# Altium schematic symbol library electromechanics.SchLib: 23 symbols
Pins are listed as number, name and electrical type; pins without a type are passive.

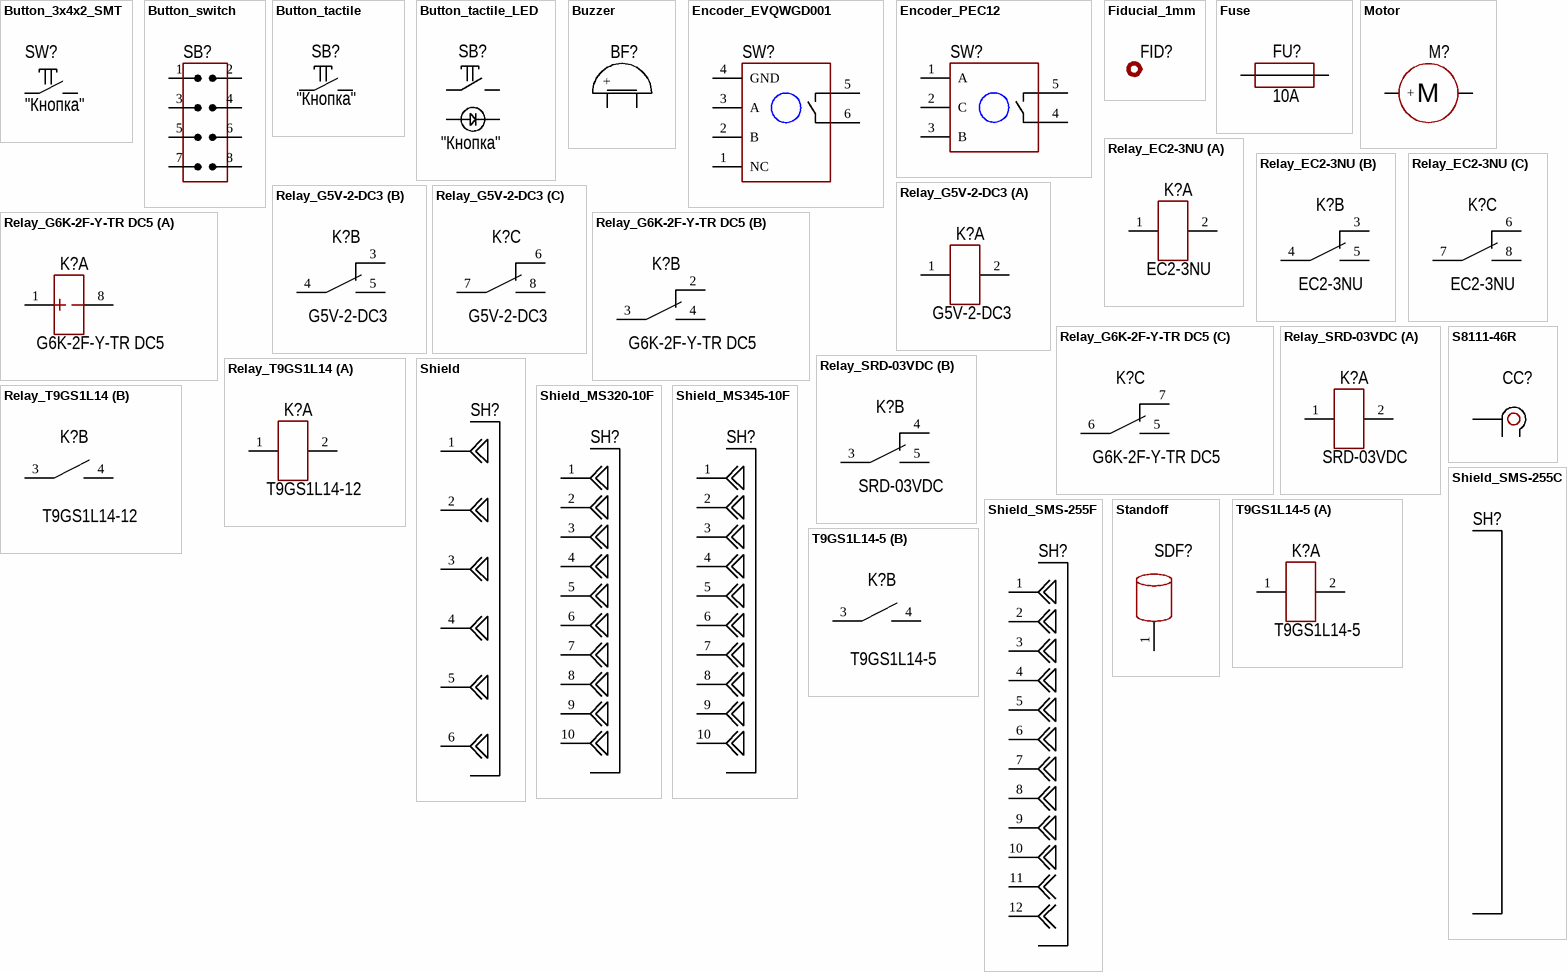
[diagram p0: symbols Button_3x4x2_SMT to T9GS1L14-5]

## Button_3x4x2_SMT
designator SW?  CommentText: "Кнопка"
SMT 3*4*2 2PIN; Manufacturer: xin cheng electronic; HelpURL: https://aliexpress.ru/item/32309509976.html?spm=a2g0v.12010612.8148356.51.441f61b1yUlL0Q; ValueManufacturerPartNumber: =TypeButton+', '+Package; PartNumber: 3*4*2 2PIN; Package: 3*4*2mm
footprint BUT: 3x4x2 SMT
pins: 1, 2

## Button_switch
designator SB?
Manufacturer: TE Connectivity; ValueManufacturerPartNumber: DIP switch, 4pin, 24VDC, 25mA, -40...+85°C; PartNumber: 418117270904; TypeButton: DIP switch; VoltageMax: 24VDC; CurrentMax: 25mA; Multichannel: 4pin; HelpURL: https://www.digikey.com/product-detail/en/te-connectivity-alcoswitch-switches/FSM2JSMAATR/450-1792-1-ND/3503931; Temperature: -40...+85°C
footprint BUT: 418117270904
pins: 1 IN, 2 IN, 3 IN, 4 IN, 5 IN, 6 IN, 7 IN, 8 IN

## Button_tactile
designator SB?  CommentText: "Кнопка"
Manufacturer: TE Connectivity; ValueManufacturerPartNumber: Tactile button, 6x6mm; PartNumber: FSM2JSMAATR; TypeButton: Tactile button; HelpURL: https://www.digikey.com/product-detail/en/te-connectivity-alcoswitch-switches/FSM2JSMAATR/450-1792-1-ND/3503931; Package: 6x6mm
footprint BUT: 6x3.5 TH
footprint BUT: 6x6 (Leaded Tactile Button 6x6)
footprint BUT: 6x6 SMD (Leaded Tactile Button 6x6)
footprint BUT: 6x3.5 SMD
footprint BUT: TS-1186F-B-A (XKB Connectivity Side Tactile Button)
footprint BUT: 5x5 H5 SMD (Leaded Tactile Button 5x5 height 5mm)
pins: 1, 2

## Button_tactile_LED
designator SB?  CommentText: "Кнопка"
Manufacturer: TE Connectivity; ValueManufacturerPartNumber: Tactile button, 9.2x9.2; PartNumber: TS5; TypeButton: Tactile button; HelpURL: https://www.digikey.com/product-detail/en/te-connectivity-alcoswitch-switches/FSM2JSMAATR/450-1792-1-ND/3503931; Package: 9.2x9.2
footprint BUT: TS5 LED (Tactile Button 9.2x9.2 with LED)
footprint BUT: SJMS LED (Tactile Button 8x8x12 with LED)
pins: 1, 2, 5, 6

## Buzzer
designator BF?
Manufacturer: PUI Audio; ValueManufacturerPartNumber: DIP switch, 2.73 kHz, 3VDC, 80mA, -20...+70°C; PartNumber: AT-0927-TT-6-R; TypeBuzzer: DIP switch; VoltageMax: 3VDC; Frequency: 2.73 kHz; CurrentMax: 80mA; HelpURL: https://www.digikey.com/products/en?keywords=AT-0927-TT-6-R; Temperature: -20...+70°C
footprint BUZ: AI-1223-TWT-3V-2-R
footprint BUZ: AT-0927-TT-6-R
footprint BUZ: CMT-7525
pins: 1 +, 2 -

## Encoder_EVQWGD001
designator SW?
Manufacturer: Toshiba; ValueManufacturerPartNumber: Quadrature encoder, EVQWGD001; PartNumber: EVQWGD001; TypeEncoder: Quadrature encoder; SeriesEncoder: EVQWGD001
footprint ENC: EVQWGD001
pins: 1 NC, 2 B, 3 A, 4 GND, 5, 6

## Encoder_PEC12
designator SW?
Manufacturer: Bourns; ValueManufacturerPartNumber: Quadrature encoder, PEC12R; PartNumber: PEC12R-4115F-S0012; TypeEncoder: Quadrature encoder; SeriesEncoder: PEC12R; HelpURL: https://www.digikey.com/product-detail/en/bourns-inc/PEC12R-4115F-S0012/PEC12R-4115F-S0012-ND/6153386
footprint ENC: PEC-12
pins: 1 A, 2 C, 3 B, 4, 5

## Fiducial_1mm
designator FID?
Fiducial
footprint FID: 1mm (Fiducial 1mm)

## Fuse
designator FU?  MaxCurrent: 10A
Manufacturer: Littelfuse; PartNumber: 01110501Z; TypeFuse: Electromechanics relay; VoltageMax: 250VAC; Package: 5x20mm; HelpURL: https://www.digikey.com/products/en?keywords=01110501Z; ValueManufacturerPartNumber: =TypeFuse+', '+VoltageMax+', '+MaxCurrent+', '+Package+', '+Temperature
footprint FUSE: 0ADBP3000-RE
footprint FUSE: 0679H (BelFuse)
footprint FUSE: 01110501Z (5x20 mm)
footprint FUSE: CQ-216
footprint FUSE: FC-001S
footprint FUSE: FH-100 (5x20 mm)
footprint FUSE: FH-101 (Fuse connector PCB mount)
footprint FUSE: 1206
footprint FUSE: 1812
footprint FUSE: 1808 (Fuse connector PCB SMD)
footprint FUSE: 0805
pins: 1, 2

## Motor
designator M?
Manufacturer: KOTL; ValueManufacturerPartNumber: SMD, 14000, 2.7VDC, 85mA, -20...+70°C; PartNumber: Z3OC1T8219731; TypeMotor: SMD; VoltageMax: 2.7VDC; RPM: 14000; CurrentMax: 85mA; HelpURL: https://datasheet.lcsc.com/lcsc/2109081930_KOTL-Z3OC1T8219731_C2894731.pdf; Temperature: -20...+70°C
footprint MOT: Z3OC1T8219731 (SMD vibration motor)
pins: 1 +, 2 -
text: M

## Relay_EC2-3NU
designator K?  PartNumber: EC2-3NU
Manufacturer: KEMET; ValueManufacturerPartNumber: Electromechanics relay, 3VDC, 250VAC, 2A, 2NO+2NC, -40...+85°C; TypeRelay: Electromechanics relay; VoltageMax: 250VAC; VoltageControlCoil: 3VDC; MaxCurrent: 2A; Package: 2NO+2NC; HelpURL: https://www.digikey.com/products/en?keywords=EC2-3NU; Temperature: -40...+85°C
footprint REL: EC2-3NU
part A pins: 1, 2
part B pins: 3, 4, 5
part C pins: 6, 7, 8

## Relay_G5V-2-DC3
designator K?  PartNumber: G5V-2-DC3
Manufacturer: Omron; ValueManufacturerPartNumber: Electromechanics relay, 3VDC, 125VAC, 2A, 2NO+2NC, -40...+85°C; TypeRelay: Electromechanics relay; VoltageMax: 125VAC; VoltageControlCoil: 3VDC; MaxCurrent: 2A; Package: 2NO+2NC; HelpURL: https://www.digikey.com/product-detail/en/omron-electronics-inc-emc-div/G5V-2-DC3/Z2185-ND/369042; Temperature: -40...+85°C
footprint REL: OMRON_G5V (Omron G5V relay)
part A pins: 1, 2
part B pins: 3, 4, 5
part C pins: 6, 7, 8

## Relay_G6K-2F-Y-TR DC5
designator K?  PartNumber: G6K-2F-Y-TR DC5
DPDT-Conversion; Manufacturer: Omron; ValueManufacturerPartNumber: Electromechanics relay, 5VDC, 125VAC, 1A, SMD 6.5x10mm, -40...+70°C; TypeRelay: Electromechanics relay; VoltageMax: 125VAC; VoltageControlCoil: 5VDC; MaxCurrent: 1A; Package: SMD 6.5x10mm; HelpURL: https://www.lcsc.com/datasheet/lcsc_datasheet_2211282300_Omron-Electronics-G6K-2F-Y-TR-DC5_C47190.pdf; Temperature: -40...+70°C
footprint REL: G6K-2F-Y
part A pins: 1, 8
part B pins: 2, 3, 4
part C pins: 5, 6, 7

## Relay_SRD-03VDC
designator K?  PartNumber: SRD-03VDC
Manufacturer: Ningbo Songle; ValueManufacturerPartNumber: Electromechanics relay, 3VDC, 250VAC, 10A, 1NO, -40...+85°C; TypeRelay: Electromechanics relay; VoltageMax: 250VAC; VoltageControlCoil: 3VDC; MaxCurrent: 10A; Package: 1NO; HelpURL: https://lcsc.com/product-detail/Relays_SRD-03VDC-SL-C_C24585.html; Temperature: -40...+85°C
footprint REL: SRD-03VDC
part A pins: 1, 2
part B pins: 3, 4, 5

## Relay_T9GS1L14
designator K?  PartNumber: T9GS1L14-12
Manufacturer: TE Connectivity; ValueManufacturerPartNumber: Electromechanics relay, 12VDC, 480VAC, 30A, 1NO, -40...+85°C; TypeRelay: Electromechanics relay; VoltageMax: 480VAC; VoltageControlCoil: 12VDC; MaxCurrent: 30A; Package: 1NO; HelpURL: https://www.digikey.com/products/en?keywords=T9GS1L14-12; Temperature: -40...+85°C
footprint REL: T9GS1
part A pins: 1, 2
part B pins: 3, 4

## S8111-46R
designator CC?  (value not drawn)
Cable Clip; Manufacturer: Harwin; HelpURL: https://www.mouser.ee/datasheet/3/71/1/S8111R.pdf; PartNumber: S8111-46R; ValueManufacturerPartNumber: S8111-46R
footprint CLIP: S8111-46R
pins: 1 IN

## Shield
designator SH?
PartNumber: 418117270904; HelpURL: https://aliexpress.ru/item/33003768263.html?spm=a2g0o.productlist.0.0.275ebc00d2dZQT&algo_pvid=6877cceb-f731-44eb-bf67-36eb17bd6196&algo_expid=6877cceb-f731-44eb-bf67-36eb17bd6196-9&btsid=0b8b036316232195722441799e88a8&ws_ab_test=searchweb0_0,searchweb201602_,searchweb201603_; ValueManufacturerPartNumber: =TypeButton+', '+Multichannel+', '+VoltageMax+', '+CurrentMax+', '+Temperature
footprint SHIELD: 2025 6P (Shield)
pins: 1 IN, 2 IN, 3 IN, 4 IN, 5 IN, 6 IN

## Shield_MS320-10F
designator SH?
Manufacturer: Masach; PartNumber: MS320-10F; HelpURL: https://api.masach.com/media/catalog/product/file/MS320-10.pdf; ValueManufacturerPartNumber: =TypeButton+', '+Multichannel+', '+VoltageMax+', '+CurrentMax+', '+Temperature
footprint SHIELD: MS320-10F (Shield)
pins: 1 IN, 2 IN, 3 IN, 4 IN, 5 IN, 6 IN, 7 IN, 8 IN, 9 IN, 10 IN

## Shield_MS345-10F
designator SH?, comment MS345-10F  (value not drawn)
Manufacturer: Masach; HelpURL: https://api.masach.com/media/catalog/product/file/MS345-10.pdf; PartNumber: MS345-10F; ValueManufacturerPartNumber: MS345-10F
footprint SHIELD: MS345-10F (Shield)
pins: 1 IN, 2 IN, 3 IN, 4 IN, 5 IN, 6 IN, 7 IN, 8 IN, 9 IN, 10 IN

## Shield_SMS-255C
designator SH?, comment SMS-255C  (value not drawn)
Shield Cover; Manufacturer: Leader Tech Inc.; HelpURL: https://mm.digikey.com/Volume0/opasdata/d220001/medias/docus/7217/SMS_Datasheet.pdf; PartNumber: SMS-255C; ValueManufacturerPartNumber: SMS-255C
footprint SHIELD: SMS-255C (Shield cover)

## Shield_SMS-255F
designator SH?, comment SMS-255F  (value not drawn)
Shield Frame; Manufacturer: Leader Tech Inc.; HelpURL: https://mm.digikey.com/Volume0/opasdata/d220001/medias/docus/7217/SMS_Datasheet.pdf; PartNumber: SMS-255F; ValueManufacturerPartNumber: SMS-255F
footprint SHIELD: SMS-255F (Shield)
pins: 1 IN, 2 IN, 3 IN, 4 IN, 5 IN, 6 IN, 7 IN, 8 IN, 9 IN, 10 IN, 11 IN, 12 IN

## Standoff
designator SDF?
Manufacturer: Wurth Elektronik; PartNumber: 9774030151R; HelpURL: https://www.we-online.com/components/products/datasheet/9774030151R.pdf; ValueManufacturerPartNumber: =TypeButton+', '+Multichannel+', '+VoltageMax+', '+CurrentMax+', '+Temperature
footprint STANDOFF: 9774030151R
pins: 1 IN

## T9GS1L14-5
designator K?  PartNumber: T9GS1L14-5
Manufacturer: TE Connectivity; ValueManufacturerPartNumber: Electromechanics relay, 5VDC, 480VAC, 30A, T9G, -40...+85°C; TypeRelay: Electromechanics relay; VoltageMax: 480VAC; VoltageControlCoil: 5VDC; MaxCurrent: 30A; Package: T9G; HelpURL: https://www.mouser.ee/datasheet/2/418/8/ENG_DS_T9G_1216_0321-1281449.pdf; Temperature: -40...+85°C
footprint REL: T9G (T9G series, DC coil 20/30A PCB Relay)
part A pins: 1, 2
part B pins: 3, 4